# Altium footprint library PCB - CONNECTOR - MOLEX - MOLEX 436500412.PcbLib: 1 footprints
Each footprint in its own frame and in the unit in brackets; x right, y up, seen from the top. Pads: shape width x height; smd on the part's side, far side on the other; paste and mask are expansions set on the pad; w line width, h text height; cw(c..) or ccw(c..) is an arc to the next point about the centre after c.
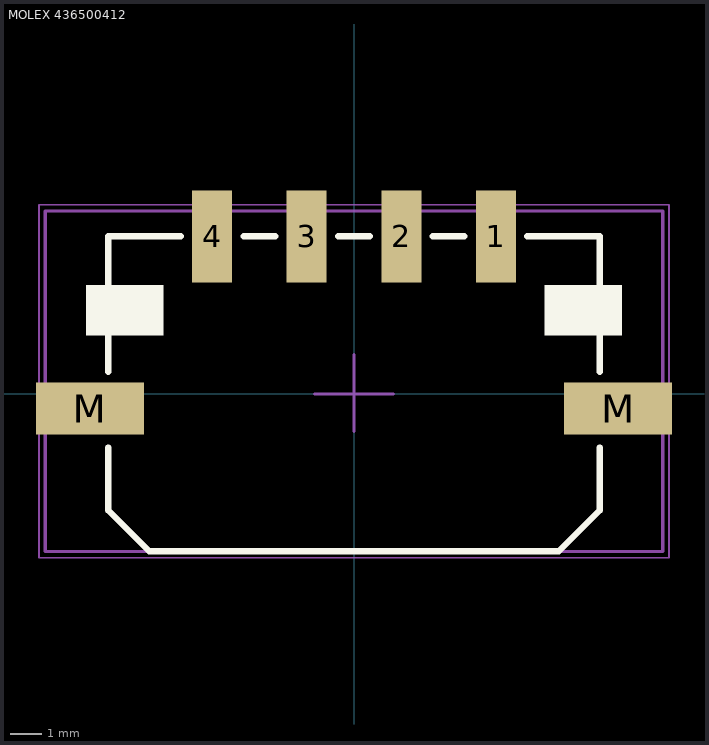
[diagram p0: the footprint, top view; thin cyan lines are the x and y axes]

## MOLEX 436500412 [mm]
height 5.57
pads (6):
  rect 1.27x2.92 smd: 1(4.5,5) 2(1.5,5) 3(-1.5,5) 4(-4.5,5)
  rect 3.43x1.65 smd: M(-8.385,-0.47) M(8.385,-0.47)
Top Overlay:
  rectangle: 6.05,1.85 8.5,3.45
  region: -6.05,3.45 -8.5,3.45 -8.5,1.85 -6.05,1.85
  lines w0.2: -7.8,-1.7 -7.8,-3.7 -6.5,-5 6.5,-5 7.8,-3.7 7.8,-1.7 ; -7.8,0.7 -7.8,5 -5.5,5 ; -3.5,5 -2.5,5 ; -0.5,5 0.5,5 ; 2.5,5 3.5,5 ; 5.5,5 7.8,5 7.8,0.7
Mechanical 13:
  lines w0.1: -9.8,-5 9.8,-5 9.8,5.8 -9.8,5.8 -9.8,-5
Mechanical 15 (Mech15):
  lines w0.05: -10,-5.2 10,-5.2 10,6 -10,6 -10,-5.2
  lines w0.1: -1.25,0 0,0 ; 0,-1.2 0,0 ; 0,1.25 0,0 ; 1.25,0 0,0
3D body "Molex - 436500412.step": height 5.68, standoff 0, extent -9.825,-4.95 9.825,5.79